# Altium integrated library Linear Technology Power Management Switching Regulator LTC1174-LTC3901.IntLib: 2647 symbols (part 213 of 364)
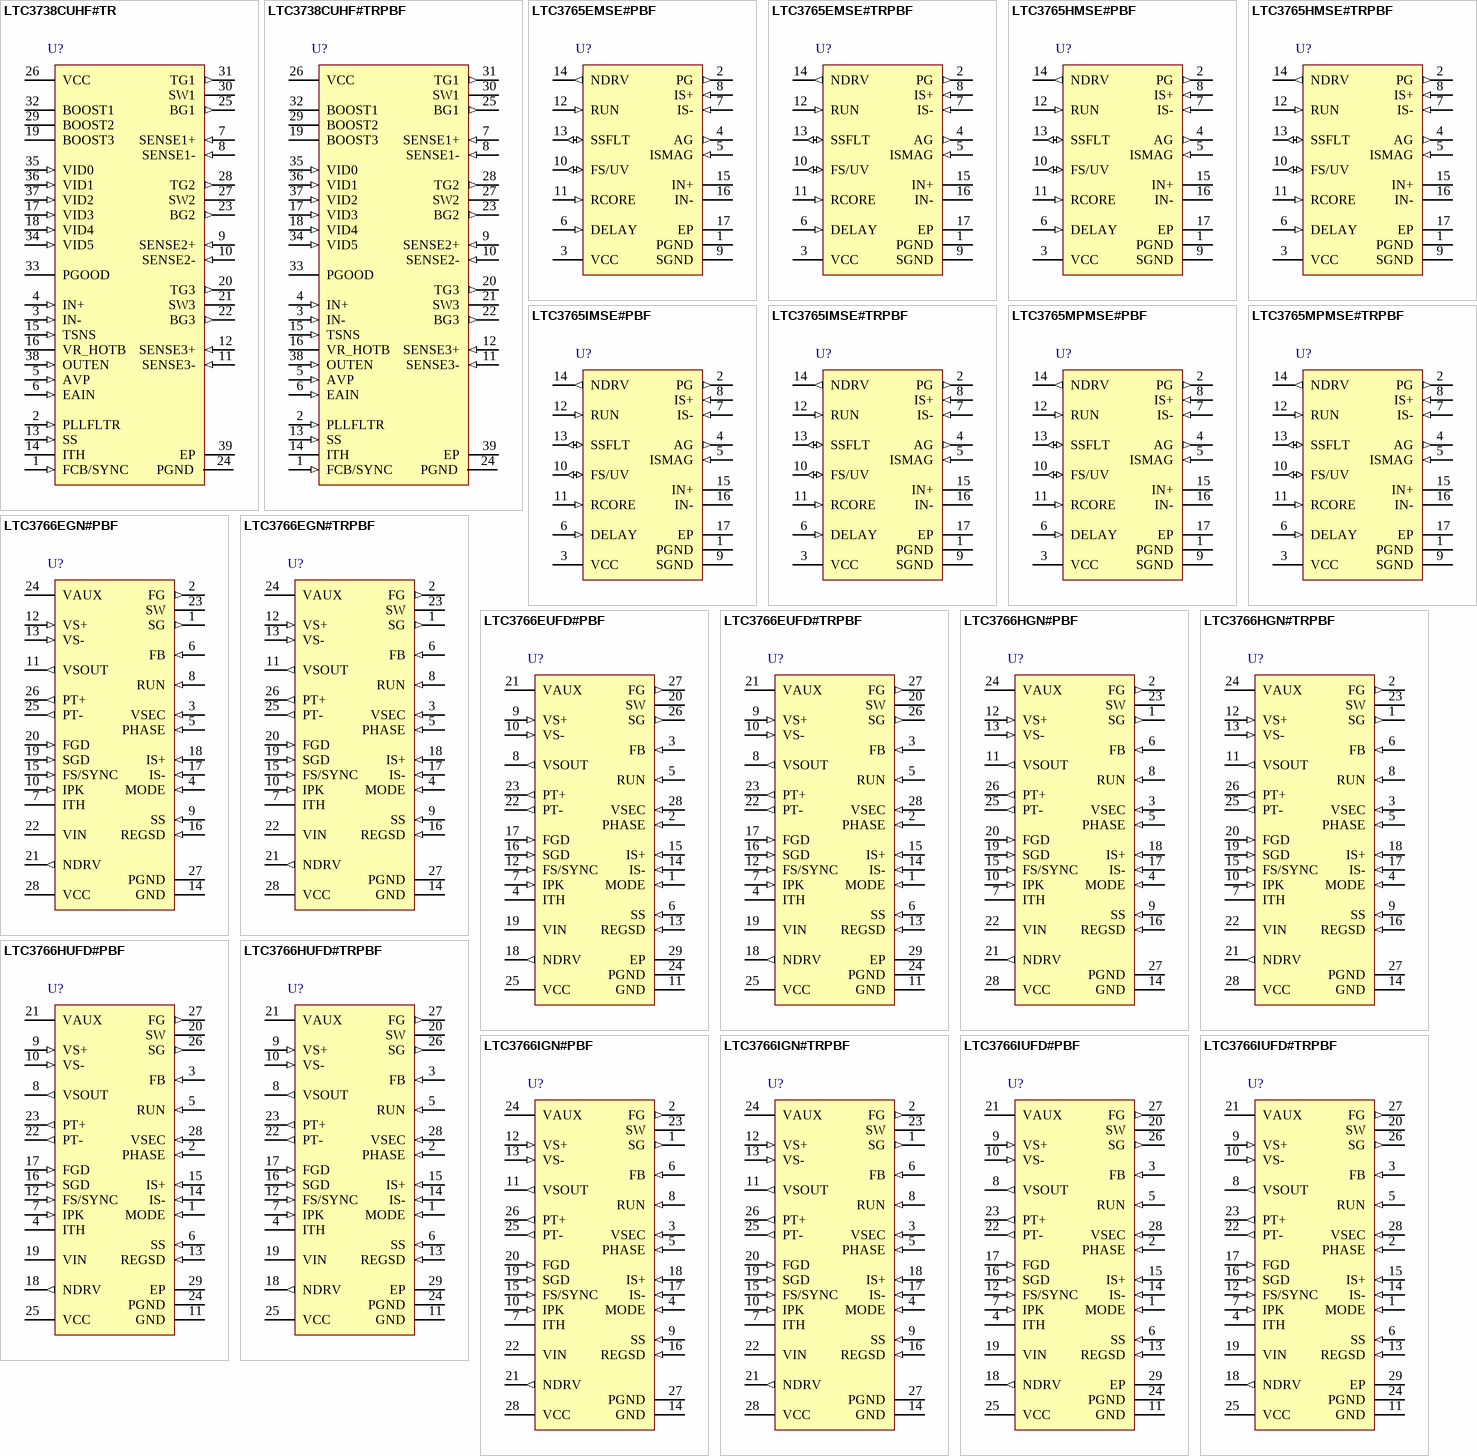
[diagram p325: symbols LTC3738CUHF#TR to LTC3766IUFD#TRPBF]

## LTC3738CUHF#TR
designator U?
3-Phase Buck Controller for Intel VRM9 / VRM10 with Active Voltage Positioning, 38-pin QFN (UHF-38), 0 to 85 degC, Tape and Reel; Manufacturer: Linear Technology; PartNumber: LTC3738CUHF#TR; Frequency Sync Range: 210kHz - 530kHz; Number of Outputs: 1; PackageVersion: Rev. C, 06/2010; PackageReference: UHF-38; PackageDescription: 38-Pin Plastic QFN, Body 7 x 5 mm, Pitch 0.5 mm; Supplier 1: Digi-Key; Supplier Part Number 1: LTC3738CUHF#TR-ND; Packing: Tape and Reel; RoHS: FALSE; Mounting Technology: Surface Mount; Code_JEDEC: MO-220; ComponentLink1Description: Manufacturer URL; ComponentLink1URL: http://www.linear.com/; ComponentLink2Description: Datasheet; ComponentLink2URL: http://cds.linear.com/docs/en/datasheet/3738f.pdf; ComponentLink3Description: Package Specification; ComponentLink3URL: http://cds.linear.com/docs/en/packaging/QFN_38_05-08-1701.pdf
footprint LT-UHF-38_N (QFN, 38-Leads, Body 7.1x5.1mm, Pitch 0.5mm, Thermal Pad 3.15x5.15mm, IPC Medium Density)
footprint LT-UHF-38_L (QFN, 38-Leads, Body 7.1x5.1mm, Pitch 0.5mm, Thermal Pad 3.15x5.15mm, IPC High Density)
footprint LT-UHF-38_M (QFN, 38-Leads, Body 7.1x5.1mm, Pitch 0.5mm, Thermal Pad 3.15x5.15mm, IPC Low Density)
pins: 1 FCB/SYNC (in) "Forced Continuous Control Input. The voltage applied to this pin sets the operating mode of the controller. The forced continuous current mode is active when the applied voltage is less than 0.6V. Pulse skip mode operation (See Datasheet)", 2 PLLFLTR (in) "The phase-locked loop’s lowpass filter is tied to this pin. Alternatively, this pin can be driven with an AC or DC voltage source to vary the frequency of the internal oscillator. (Do not apply voltage to this pin prior t(See Datasheet)", 3 IN- (in) "Inputs to a Precision, Unity-Gain Differential Amplifier with Internal Precision Resistors. This provides true remote sensing of both the positive and negative load terminals for precise output voltage control.", 4 IN+ (in) "Inputs to a Precision, Unity-Gain Differential Amplifier with Internal Precision Resistors. This provides true remote sensing of both the positive and negative load terminals for precise output voltage control.", 5 AVP (in) "Active Voltage Positioning Load Slope Programming Pin. A resistor tied between this pin and IN+ sets the load slope.", 6 EAIN (in) "This is the input to the error amplifier which compares the VID divided feedback voltage to the internal 0.6V reference voltage.", 7 SENSE1+ (in) "The Inputs to Each Differential Current Comparator. The ITH pin voltage and built-in offsets between the SENSE-  and SENSE+  pins, in conjunction with RSENSE, set the current trip threshold level.", 8 SENSE1- (in) "The Inputs to Each Differential Current Comparator. The ITH pin voltage and built-in offsets between the SENSE-  and SENSE+  pins, in conjunction with RSENSE, set the current trip threshold level.", 9 SENSE2+ (in) "The Inputs to Each Differential Current Comparator. The ITH pin voltage and built-in offsets between the SENSE-  and SENSE+  pins, in conjunction with RSENSE, set the current trip threshold level.", 10 SENSE2- (in) "The Inputs to Each Differential Current Comparator. The ITH pin voltage and built-in offsets between the SENSE-  and SENSE+  pins, in conjunction with RSENSE, set the current trip threshold level.", 11 SENSE3- (in) "The Inputs to Each Differential Current Comparator. The ITH pin voltage and built-in offsets between the SENSE-  and SENSE+  pins, in conjunction with RSENSE, set the current trip threshold level.", 12 SENSE3+ (in) "The Inputs to Each Differential Current Comparator. The ITH pin voltage and built-in offsets between the SENSE-  and SENSE+  pins, in conjunction with RSENSE, set the current trip threshold level.", 13 SS (in) "Combination of Soft-Start and Short-Circuit Detection Timer. A capacitor to ground at this pin sets the ramp time to full current output as well as the time delay prior to an output voltage short-circuit shutdown.", 14 ITH "Error Amplifier Output and Switching Regulator Compensation Point. All three current comparator’s thresholds increase with this control voltage.", 15 TSNS (in) "This pin selects external or internal thermal detection. Tying this pin to VCC will enable the internal thermal detector. When the voltage at this pin is less than VCC - 1.6V, the internal thermal detector is disabled and (See Datasheet)", 16 VR_HOTB (oc) "This open-collector output is pulled low when voltage at the TSNS pin is less than VCC/3. If TSNS is tied to VCC, this pin is pulled low when the internal thermal detector is tripped.", 17 VID3 (in) "Output Voltage Programming Input Pins. When VID5 is tied to VCC, the Intel VRM9 VID table is selected. When voltage of VID5 is less than VCC - 2V, VID5 serves as the fifth VID bit of VRM10.", 18 VID4 (in) "Output Voltage Programming Input Pins. When VID5 is tied to VCC, the Intel VRM9 VID table is selected. When voltage of VID5 is less than VCC - 2V, VID5 serves as the fifth VID bit of VRM10.", 19 BOOST3 "Positive Supply Pins to the Topside Floating Drivers. Bootstrapped capacitors, charged with external Schottky diodes and a boost voltage source are connected between the BOOST and SW pins. Voltage swing at the BOOST pins is (See Datasheet)", 20 TG3 (out) "High Current Gate Drives for Top N-Channel MOSFETs. These are the outputs of the floating drivers with a voltage swing equal to the boost voltage source superimposed on the switch node voltage SW.", 21 SW3 "Switch Node Connections to Inductors. Voltage swing at these pins is from a Schottky diode (external) voltage drop below ground to VIN (where VIN is the external MOSFET supply rail).", 22 BG3 (out) "High Current Gate Drives for the Bottom N-Channel MOSFETs. Voltage swing at these pins is from ground to VCC.", 23 BG2 (out) "High Current Gate Drives for the Bottom N-Channel MOSFETs. Voltage swing at these pins is from ground to VCC.", 24 PGND (power) "Driver Power Ground. This pin connects to the sources of the bottom N-channel external MOSFETs and the (-) terminals of CIN.", 25 BG1 (out) "High Current Gate Drives for the Bottom N-Channel MOSFETs. Voltage swing at these pins is from ground to VCC.", 26 VCC (power) "Supply Pin. Because this pin supplies both the controller circuit power as well as the high power pulses supplied to drive the external MOSFET gates, this pin needs to be very carefully and closely decoupled to the IC’(See Datasheet)", 27 SW2 "Switch Node Connections to Inductors. Voltage swing at these pins is from a Schottky diode (external) voltage drop below ground to VIN (where VIN is the external MOSFET supply rail).", 28 TG2 (out) "High Current Gate Drives for Top N-Channel MOSFETs. These are the outputs of the floating drivers with a voltage swing equal to the boost voltage source superimposed on the switch node voltage SW.", 29 BOOST2 "Positive Supply Pins to the Topside Floating Drivers. Bootstrapped capacitors, charged with external Schottky diodes and a boost voltage source are connected between the BOOST and SW pins. Voltage swing at the BOOST pins is (See Datasheet)", 30 SW1 "Switch Node Connections to Inductors. Voltage swing at these pins is from a Schottky diode (external) voltage drop below ground to VIN (where VIN is the external MOSFET supply rail).", 31 TG1 (out) "High Current Gate Drives for Top N-Channel MOSFETs. These are the outputs of the floating drivers with a voltage swing equal to the boost voltage source superimposed on the switch node voltage SW.", 32 BOOST1 "Positive Supply Pins to the Topside Floating Drivers. Bootstrapped capacitors, charged with external Schottky diodes and a boost voltage source are connected between the BOOST and SW pins. Voltage swing at the BOOST pins is (See Datasheet)", 33 PGOOD (oc) "This open-drain output is pulled low when the output voltage is outside the PGOOD tolerance window. PGOOD is blanked during VID transitions for approximately 100us.", 34 VID5 (in) "Output Voltage Programming Input Pins. When VID5 is tied to VCC, the Intel VRM9 VID table is selected. When voltage of VID5 is less than VCC - 2V, VID5 serves as the fifth VID bit of VRM10.", 35 VID0 (in) "Output Voltage Programming Input Pins. When VID5 is tied to VCC, the Intel VRM9 VID table is selected. When voltage of VID5 is less than VCC - 2V, VID5 serves as the fifth VID bit of VRM10.", 36 VID1 (in) "Output Voltage Programming Input Pins. When VID5 is tied to VCC, the Intel VRM9 VID table is selected. When voltage of VID5 is less than VCC - 2V, VID5 serves as the fifth VID bit of VRM10.", 37 VID2 (in) "Output Voltage Programming Input Pins. When VID5 is tied to VCC, the Intel VRM9 VID table is selected. When voltage of VID5 is less than VCC - 2V, VID5 serves as the fifth VID bit of VRM10.", 38 OUTEN (in) "On/Off Control of the Controller.", 39 EP (power) "Signal Ground. This pin must be soldered to the ground plane."